# Altium footprint library FMP Miscellaneous Device.PcbLib: 47 footprints (part 3 of 3)
Each footprint in its own frame and in the unit in brackets; x right, y up, seen from the top. Pads: shape width x height; smd on the part's side, far side on the other; paste and mask are expansions set on the pad; w line width, h text height; cw(c..) or ccw(c..) is an arc to the next point about the centre after c.
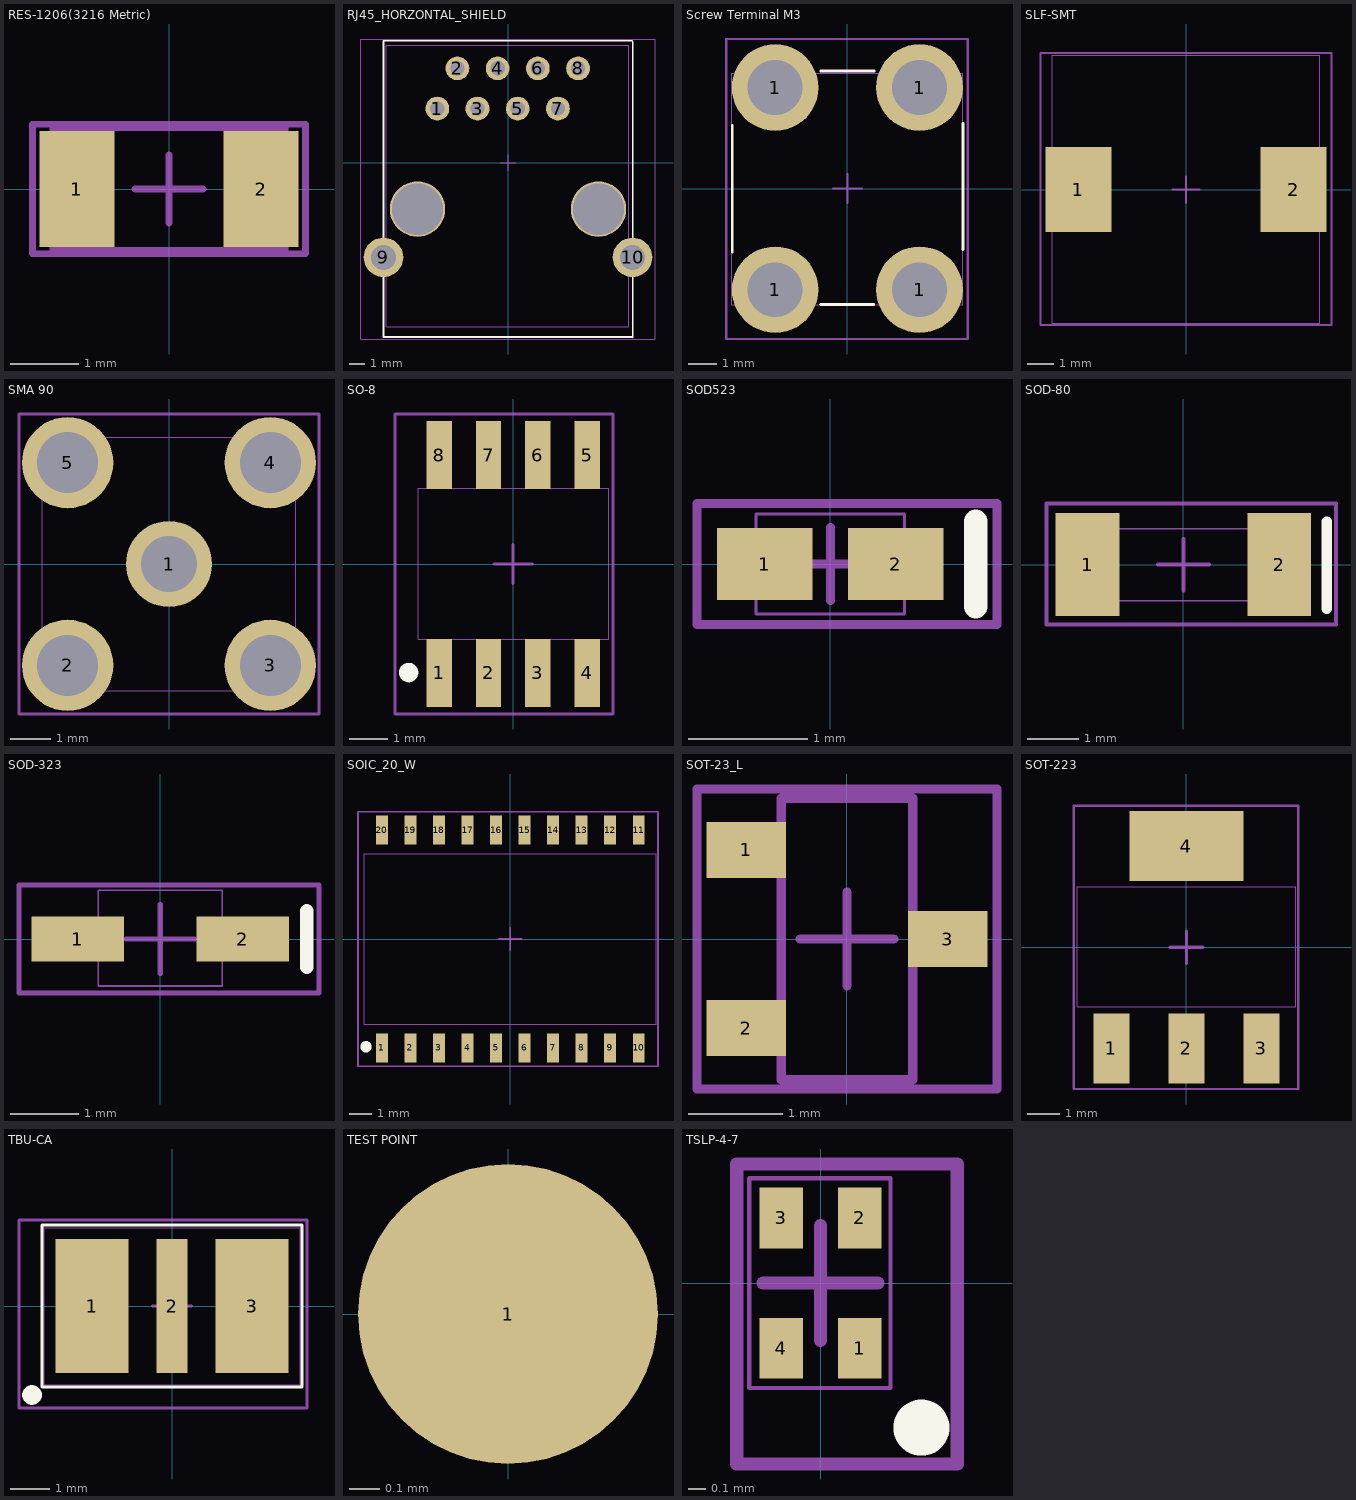
[diagram p2: the footprints below, top view; thin cyan lines are the x and y axes]

## RES-1206(3216 Metric) [mm] "Chip Resistor, Body 3.2x1.6mm, IPC High Density"
height 1.3
pads (2):
  rect 1.1x1.7 smd: 1(-1.35,0) 2(1.35,0)
Mechanical 13:
  lines w0.1: -1.7,-0.9 1.7,-0.9 1.7,0.9 -1.7,0.9 -1.7,-0.9
Mechanical 15:
  lines w0.1: -0.5,0 0.5,0 ; 0,-0.5 0,0.5 ; -2,-0.95 2,-0.95 2,0.95 -2,0.95 -2,-0.95
3D body: height 1.3, standoff 0, extent -1.7,-0.9 1.7,0.9

## RJ45_HORZONTAL_SHIELD [mm]
pads (12):
  round 1.5 hole 0.9: 1(-4.465,3.43) 2(-3.195,5.97) 3(-1.925,3.43) 4(-0.655,5.97) 5(0.615,3.43) 6(1.885,5.97) 7(3.155,3.43) 8(4.425,5.97)
  round 2.5 hole 1.57: 9(-7.865,-5.97) 10(7.865,-5.97)
  round 3.5 hole 3.25 unplated: ""(-5.715,-2.92) ""(5.715,-2.92)
Top Overlay:
  lines w0.1: 7.835,-11 -7.865,-11 -7.865,-2.87 -7.865,7.7 7.835,7.7 ; 7.885,-11.05 7.885,-2.92 7.885,7.65
Mechanical 13:
  lines w0.025: -7.683,-10.363 7.633,-10.363 7.633,7.442 -7.683,7.442 -7.683,-10.363
Mechanical 15:
  lines w0.076: -0.5,0 0.5,0 ; 0,-0.5 0,0.5 ; -9.296,-11.125 -9.296,-5.969 -9.296,7.823 9.296,7.823 9.296,-11.125 -9.296,-11.125
3D body: height 12.98, standoff 0.13, extent -7.683,-10.363 7.633,7.442

## Screw Terminal M3 [mm] "TERM PCB SNAP-IN VERT M3 THREAD"
pads (4):
  round 3 hole 1.9: 1(-2.5,-3.5) 1(-2.5,3.5) 1(2.5,-3.5) 1(2.5,3.5)
Top Overlay:
  lines w0.1: -3.985,-2.19 -3.985,2.18 ; -0.936,-4.013 0.914,-4.013 ; -0.92,4.07 0.93,4.07 ; 4.003,-2.105 4.003,2.265
Mechanical 13:
  lines w0.025: -4,-4.013 -4,3.988 4,3.988 4,-4.013 -4,-4.013
Mechanical 15:
  lines w0.076: -0.5,0 0.5,0 ; 0,-0.5 0,0.5 ; -4.191,-5.207 4.166,-5.207 4.166,5.182 -2.54,5.182 -4.191,5.182 -4.191,-5.207
3D body: height 5.99, standoff 0, extent -4,-4.013 4,3.988

## SLF-SMT [mil] "SLF Series inductor"
height 256
pads (2):
  rect 98.5x126 smd: 1(-159.45,0) 2(159.45,0)
Mechanical 13:
  lines w1: -198.5,-198 -198.5,199 198.5,199 198.5,-198 -198.5,-198
Mechanical 15:
  lines w3: -19.69,0 19.68,0 ; 0,-19.69 0,19.68 ; -216,-201 -216,66 -216,203 216,203 216,-201 -216,-201
3D body: height 256, standoff 3, extent -198.5,-198 198.5,199

## SMA 90 [mil] "SMA PCB 90"
height 390
pads (5):
  round 85 hole 55: 1(0,0)
  round 90 hole 60: 2(-100,-100) 3(100,-100) 4(100,100) 5(-100,100)
Mechanical 13:
  lines w1: -125,-125 125,-125 125,125 -125,125 -125,-125
Mechanical 15:
  lines w3: -19.69,0 19.68,0 ; 0,-19.69 0,19.68 ; -148,-148 -148,148 -100,148 148,148 148,-148 -148,-148
3D body: height 390, standoff 0, extent -125,-125 125,125

## SO-8 [mm] "SO-8 SOIC"
height 1.778
pads (8):
  rect 0.65x1.75 smd: 1(-1.905,-2.8) 2(-0.635,-2.8) 3(0.635,-2.8) 4(1.905,-2.8) 5(1.905,2.8) 6(0.635,2.8) 7(-0.635,2.8) 8(-1.905,2.8)
Top Overlay:
  circle w0.25: c-2.692,-2.794 r0.125
Mechanical 13:
  lines w0.025: -2.438,-1.936 -2.438,1.95 2.464,1.95 2.464,-1.936 -2.438,-1.936
Mechanical 15:
  lines w0.076: -0.5,0 0.5,0 ; 0,-0.5 0,0.5 ; -3.048,-3.861 -3.048,3.861 2.565,3.861 2.565,-3.861 -2.337,-3.861 -3.048,-3.861
3D body: height 1.75, standoff 0.18, extent -2.438,-1.936 2.464,1.95

## SOD523 [mil] "SMT"
height 26
pads (2):
  rect 31.5x23.62 smd: 1(-21.65,0) 2(21.65,0)
Top Overlay:
  lines w7.87: 48,-14 48,14
Mechanical 13:
  lines w1: -24.5,-16.5 -24.5,16.5 24.5,16.5 24.5,-16.5 -24.5,-16.5
Mechanical 15:
  lines w3: -12,0 12,0 ; 0,-12 0,12 ; -44,-20 55,-20 55,20 -22,20 -44,20 -44,-20
3D body: height 26, standoff 3, extent -24.5,-16.5 24.5,16.5

## SOD-80 [mil] "MiniMELF"
height 63
pads (2):
  rect 49x79 smd: 1(-73.5,0) 2(73.5,0)
Top Overlay:
  lines w7.87: 110,-34 110,33
Mechanical 13:
  lines w1: -65,-27.5 65,-27.5 65,27.5 -65,27.5 -65,-27.5
Mechanical 15:
  lines w3: -19.69,0 19.68,0 ; 0,-19.69 0,19.68 ; -105,-46 117,-46 117,47 -105,47 -105,-46
3D body: height 63, standoff 3, extent -65,-27.5 65,27.5

## SOD-323 [mm] "SMT"
height 1.118
pads (2):
  rect 1.35x0.65 smd: 1(-1.2,0) 2(1.2,0)
Top Overlay:
  lines w0.2: 2.134,-0.406 2.134,0.406
Mechanical 13:
  lines w0.025: -0.902,-0.686 -0.902,0.711 0.902,0.711 0.902,-0.686 -0.902,-0.686
Mechanical 15:
  lines w0.076: -0.5,0 0.5,0 ; 0,-0.5 0,0.5 ; -2.057,-0.787 -2.057,0.152 -2.057,0.787 2.311,0.787 2.311,-0.787 -2.057,-0.787
3D body: height 1.12, standoff 0.08, extent -0.902,-0.686 0.902,0.711

## SOIC_20_W [mm] "SOIC 20 WIDE"
height 2.642
pads (20):
  rect 0.521x1.3 smd: 1(-5.715,-4.85) 2(-4.445,-4.85) 3(-3.175,-4.85) 4(-1.905,-4.85) 5(-0.635,-4.85) 6(0.635,-4.85) 7(1.905,-4.85) 8(3.175,-4.85) 9(4.445,-4.85) 10(5.715,-4.85) 11(5.715,4.85) 12(4.445,4.85) 13(3.175,4.85) 14(1.905,4.85) 15(0.635,4.85) 16(-0.635,4.85) 17(-1.905,4.85) 18(-3.175,4.85) 19(-4.445,4.85) 20(-5.715,4.85)
Top Overlay:
  circle w0.25: c-6.426,-4.801 r0.125
Mechanical 13:
  lines w0.025: -6.502,-3.8 6.497,-3.8 6.497,3.8 -6.502,3.8 -6.502,-3.8
Mechanical 15:
  lines w0.076: -0.5,0 0.5,0 ; 0,-0.5 0,0.5 ; -6.782,-5.664 -6.782,5.664 -6.045,5.664 6.579,5.664 6.579,-5.664 -6.782,-5.664
3D body: height 2.64, standoff 0.3, extent -6.502,-3.8 6.497,3.8

## SOT-23_L [mm] "SOT23, 3-Leads, Body 2.9x1.3mm, Pitch 0.95mm, Lead Span 2.5mm, IPC High Density"
height 1.1
pads (3):
  rect 0.85x0.6 smd: 1(-1.075,0.95) 2(-1.075,-0.95) 3(1.075,0)
Mechanical 13:
  lines w0.1: -0.7,-1.5 0.7,-1.5 0.7,1.5 -0.7,1.5 -0.7,-1.5
Mechanical 15:
  lines w0.1: -0.5,0 0.5,0 ; 0,-0.5 0,0.5 ; -1.6,-1.6 1.6,-1.6 1.6,1.6 -1.6,1.6 -1.6,-1.6
3D body: height 1.1, standoff 0, extent -0.7,-1.5 0.7,1.5

## SOT-223 [mm]
pads (4):
  rect 1.1x2.15 smd: 1(-2.3,-3.1) 2(0,-3.1) 3(2.3,-3.1)
  rect 3.5x2.15 smd: 4(0,3.1)
Mechanical 13:
  lines w0.025: -3.353,-1.829 -3.353,1.854 3.353,1.854 3.353,-1.829 -3.353,-1.829
Mechanical 15:
  lines w0.076: -3.454,-4.343 -3.454,4.343 -1.651,4.343 3.429,4.343 3.429,-4.343 -3.454,-4.343
  lines w0.1: -0.5,0 0.5,0 ; 0,-0.5 0,0.5
3D body: height 1.8, standoff 0.08, extent -3.353,-1.829 3.353,1.854

## TBU-CA [mil] "TBU"
height 33
pads (3):
  rect 73x134 smd: 1(-80,0) 3(80,0)
  rect 31x134 smd: 2(0,0)
Top Overlay:
  circle w9.84: c-140,-89 r4.92
  lines w3: -130,-81 -130,81 130,81 130,-81 -130,-81
Mechanical 13:
  lines w1: -128,-78.5 -128,78.5 128,78.5 128,-78.5 -128,-78.5
Mechanical 15:
  lines w3: -19.69,0 19.68,0 ; 0,-19.68 0,19.69 ; -153,-102 135,-102 135,86 -132,86 -153,86 -153,-102
3D body: height 33, standoff 0, extent -128,-78.5 128,78.5

## TEST POINT [mm] "General probe point"
pads (1):
  round 1 smd: 1(0,0)

## TSLP-4-7 [mm]
pads (4):
  rect 0.25x0.35 smd: 1(0.225,-0.375) 2(0.225,0.375) 3(-0.225,0.375) 4(-0.225,-0.375)
Top Overlay:
  circle w0.25: c0.581,-0.832 r0.036
Mechanical 13:
  lines w0.025: -0.41,-0.604 -0.41,0.603 0.403,0.603 0.403,-0.604 -0.41,-0.604
Mechanical 15:
  lines w0.076: -0.33,0 0.33,0 ; 0,-0.33 0,0.33 ; -0.483,-1.041 -0.483,0.686 0.508,0.686 0.787,0.686 0.787,-1.041 -0.483,-1.041
3D body: height 0.41, standoff 0, extent -0.41,-0.604 0.403,0.603